# EAGLE library part FT232BM (library ftdi)
USB UART 2nd Generation USB UART (USB <-> Serial)
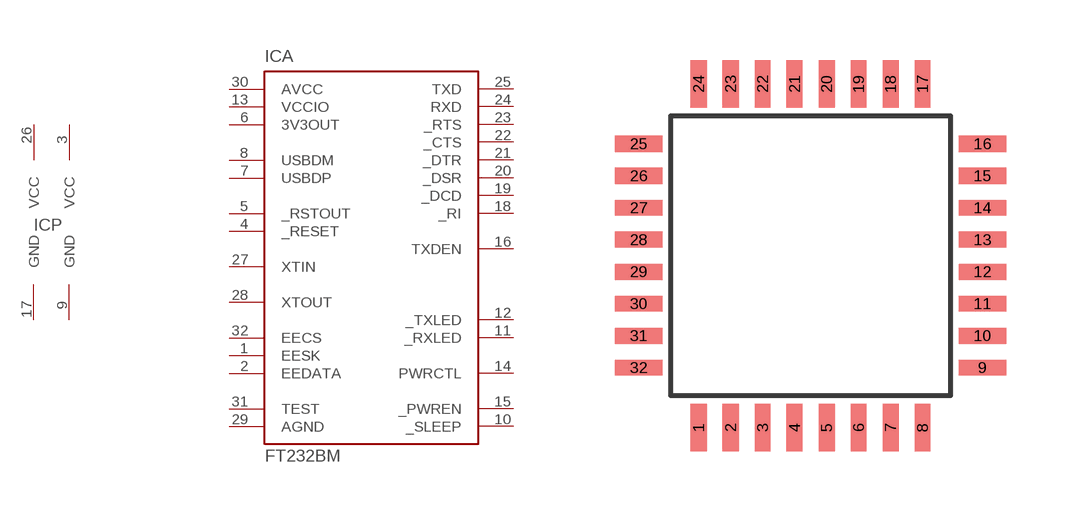
[diagram p0: symbol with the pads of LQFP32; footprint LQFP32]

Designator prefix IC; gates A=FT232BM P=2VCC2GND

## FT232BM  [LQFP32]
1  A:EESK  out
2  A:EEDATA
3  P:VCC  pwr
4  A:_RESET  in
5  A:_RSTOUT  out
6  A:3V3OUT  out
7  A:USBDP
8  A:USBDM
9  P:GND  pwr
10  A:_SLEEP  out
11  A:_RXLED  oc
12  A:_TXLED  oc
13  A:VCCIO  pwr
14  A:PWRCTL  in
15  A:_PWREN  out
16  A:TXDEN  out
17  P:GND  pwr
18  A:_RI  in
19  A:_DCD  in
20  A:_DSR  in
21  A:_DTR  out
22  A:_CTS  in
23  A:_RTS  out
24  A:RXD  in
25  A:TXD  out
26  P:VCC  pwr
27  A:XTIN  in
28  A:XTOUT  out
29  A:AGND  pwr
30  A:AVCC  pwr
31  A:TEST  in
32  A:EECS

## Footprint LQFP32 (pad centres in mm)
LQFP-32 package 7x7 mm case, 0.8 mm lead pitch
smd 0.4 x 1.2: 1 -2.8,-4.3; 2 -2,-4.3; 3 -1.2,-4.3; 4 -0.4,-4.3; 5 0.4,-4.3; 6 1.2,-4.3; 7 2,-4.3; 8 2.8,-4.3; 17 2.8,4.3; 18 2,4.3; 19 1.2,4.3; 20 0.4,4.3; 21 -0.4,4.3; 22 -1.2,4.3; 23 -2,4.3; 24 -2.8,4.3
smd 1.2 x 0.4: 9 4.3,-2.8; 10 4.3,-2; 11 4.3,-1.2; 12 4.3,-0.4; 13 4.3,0.4; 14 4.3,1.2; 15 4.3,2; 16 4.3,2.8; 25 -4.3,2.8; 26 -4.3,2; 27 -4.3,1.2; 28 -4.3,0.4; 29 -4.3,-0.4; 30 -4.3,-1.2; 31 -4.3,-2; 32 -4.3,-2.8